# Altium schematic symbol library SCH - MOSFETS - CSD18563Q5A.SCHLIB: 1 symbol
Pins are listed as number, name and electrical type; pins without a type are passive.

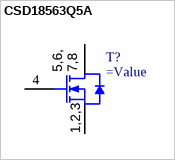
[diagram p0: symbol CSD18563Q5A]

## CSD18563Q5A
designator T?
MOSFET, N-CH, 60 V, 15 A, SON 5x6mm
pins: 1 S, 2 S, 3 S, 4 G, 5 D, 6 D, 7 D, 8 D, 9 D
text: 5,6,; 7,8; 1,2,3